# EAGLE library part SCSI_CONN (library F030NG)
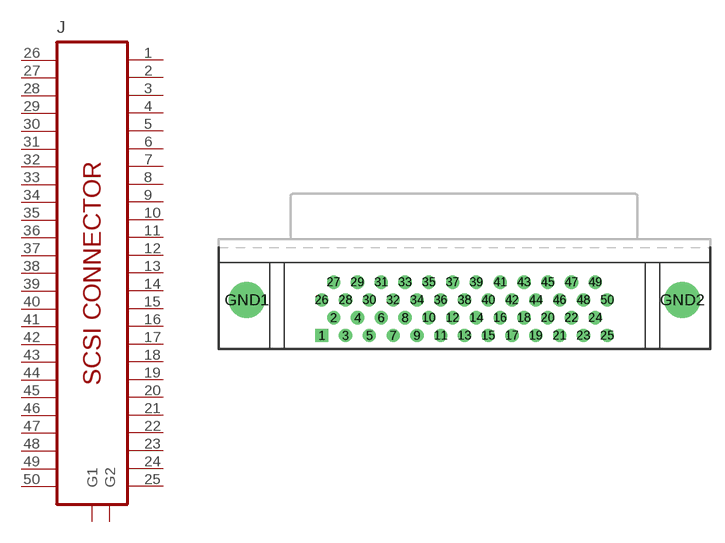
[diagram p16: symbol with the pads of TE_5787170-5; footprint TE_5787170-5]

Designator prefix J

## SCSI_CONN  [TE_5787170-5]
1  1  pas
2  2  pas
3  3  pas
4  4  pas
5  5  pas
6  6  pas
7  7  pas
8  8  pas
9  9  pas
10  10  pas
11  11  pas
12  12  pas
13  13  pas
14  14  pas
15  15  pas
16  16  pas
17  17  pas
18  18  pas
19  19  pas
20  20  pas
21  21  pas
22  22  pas
23  23  pas
24  24  pas
25  25  pas
26  26  pas
27  27  pas
28  28  pas
29  29  pas
30  30  pas
31  31  pas
32  32  pas
33  33  pas
34  34  pas
35  35  pas
36  36  pas
37  37  pas
38  38  pas
39  39  pas
40  40  pas
41  41  pas
42  42  pas
43  43  pas
44  44  pas
45  45  pas
46  46  pas
47  47  pas
48  48  pas
49  49  pas
50  50  pas
GND1  G1  pas
GND2  G2  pas

## Footprint TE_5787170-5 (pad centres in mm)
THOMAS&BETTS H5M09RA29A
drill 0.9 square: 1 -15.24,-3.8
drill 0.9: 2 -13.97,-1.9; 3 -12.7,-3.8; 4 -11.43,-1.9; 5 -10.16,-3.8; 6 -8.89,-1.9; 7 -7.62,-3.8; 8 -6.35,-1.9; 9 -5.08,-3.8; 10 -3.81,-1.9; 11 -2.54,-3.8; 12 -1.27,-1.9; 13 0,-3.8; 14 1.27,-1.9; 15 2.54,-3.8; 16 3.81,-1.9; 17 5.08,-3.8; 18 6.35,-1.9; 19 7.62,-3.8; 20 8.89,-1.9; 21 10.16,-3.8; 22 11.43,-1.9; 23 12.7,-3.8; 24 13.97,-1.9; 25 15.24,-3.8; 26 -15.24,0; 27 -13.97,1.9; 28 -12.7,0; 29 -11.43,1.9; 30 -10.16,0; 31 -8.89,1.9; 32 -7.62,0; 33 -6.35,1.9; 34 -5.08,0; 35 -3.81,1.9; 36 -2.54,0; 37 -1.27,1.9; 38 0,0; 39 1.27,1.9; 40 2.54,0; 41 3.81,1.9; 42 5.08,0; 43 6.35,1.9; 44 7.62,0; 45 8.89,1.9; 46 10.16,0; 47 11.43,1.9; 48 12.7,0; 49 13.97,1.9; 50 15.24,0
drill 2.8 pad 3.81: GND1 -23.24,0
drill 2.8: GND2 23.24,0